# Altium footprint library Componentes Deived Projetos PCB.PcbLib: 87 footprints (part 5 of 6)
Each footprint in its own frame and in the unit in brackets; x right, y up, seen from the top. Pads: shape width x height; smd on the part's side, far side on the other; paste and mask are expansions set on the pad; w line width, h text height; cw(c..) or ccw(c..) is an arc to the next point about the centre after c.
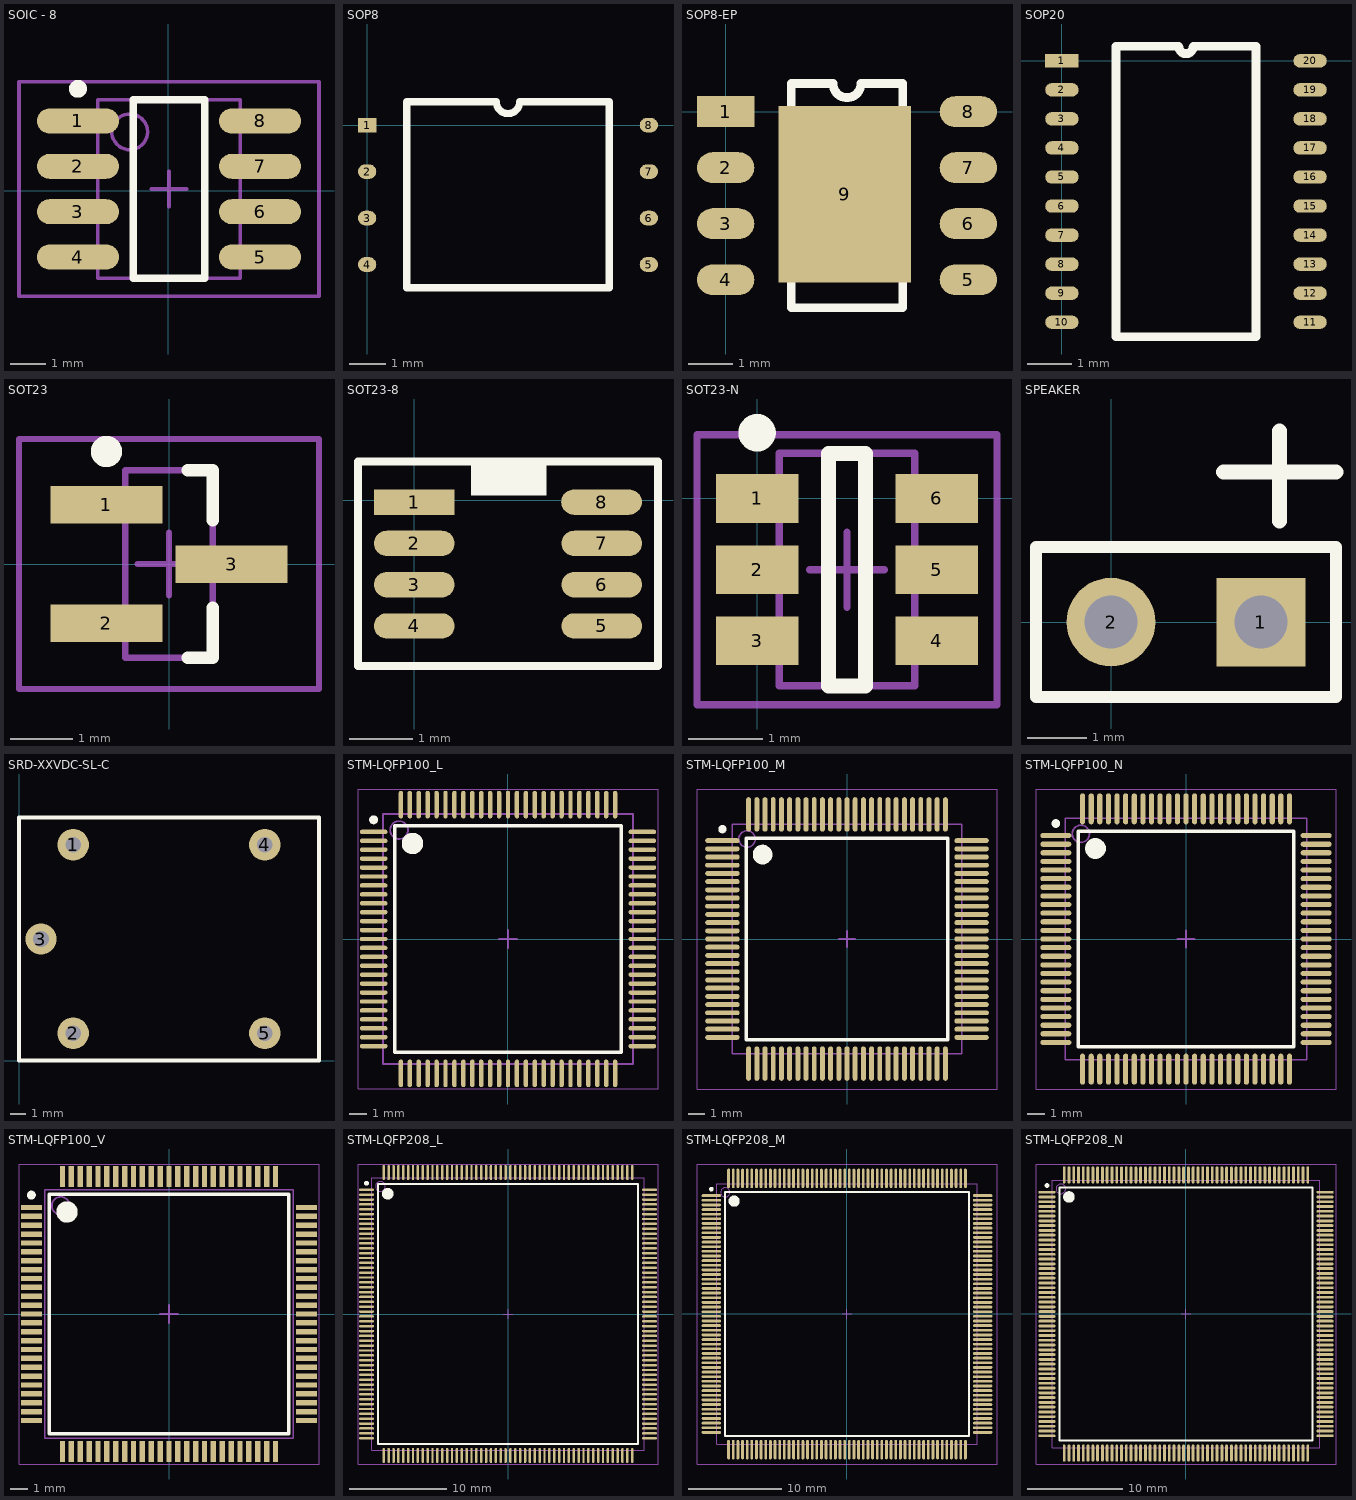
[diagram p4: the footprints below, top view; thin cyan lines are the x and y axes]

## SOIC - 8 [mm]
pads (8):
  oval 2.3x0.7 smd: 1(-2.525,1.955) 2(-2.525,0.685) 3(-2.525,-0.585) 4(-2.525,-1.855) 5(2.575,-1.855) 6(2.575,-0.585) 7(2.575,0.685) 8(2.575,1.955)
Top Overlay:
  circle w0.25: c-2.525,2.855 r0.125
  lines w0.2: -0.975,-2.45 1.025,-2.45 1.025,2.55 -0.975,2.55 -0.975,-2.45
Mechanical 13:
  circle w0.1: c-1.075,1.65 r0.5
  lines w0.1: -1.975,-2.45 2.025,-2.45 2.025,2.55 -1.975,2.55 -1.975,-2.45
Mechanical 15:
  lines w0.1: -0.475,0.05 0.525,0.05 ; 0.025,-0.45 0.025,0.55 ; -4.175,-2.95 4.225,-2.95 4.225,3.05 -4.175,3.05 -4.175,-2.95
3D body: height 2.72, standoff 0, extent -1.975,-2.45 2.025,2.55

## SOP8 [mm]
pads (8):
  rect 0.5x0.4 smd: 1(0,0)
  oval 0.5x0.4 smd: 2(0,-1.27) 3(0,-2.54) 4(0,-3.81) 5(7.7,-3.81) 6(7.7,-2.54) 7(7.7,-1.27) 8(7.7,0)
Top Overlay:
  lines w0.2: 1.085,-4.445 1.085,0.635 3.532,0.635 ccw(c3.85,0.635) 4.167,0.635 6.615,0.635 6.615,-4.445 1.085,-4.445

## SOP8-EP [mm]
pads (9):
  rect 1.3x0.7 smd: 1(0,0)
  oval 1.3x0.7 smd: 2(0,-1.27) 3(0,-2.54) 4(0,-3.81) 5(5.5,-3.81) 6(5.5,-2.54) 7(5.5,-1.27) 8(5.5,0)
  rect 3x4 smd: 9(2.7,-1.875)
Top Overlay:
  lines w0.2: 1.485,-4.445 4.015,-4.445 4.015,0.635 3.067,0.635 cw(c2.75,0.635) 2.432,0.635 1.485,0.635 1.485,-4.445

## SOP20 [mm]
pads (20):
  rect 0.75x0.3 smd: 1(0,0)
  oval 0.75x0.3 smd: 2(0,-0.65) 3(0,-1.3) 4(0,-1.95) 5(0,-2.6) 6(0,-3.25) 7(0,-3.9) 8(0,-4.55) 9(0,-5.2) 10(0,-5.85) 11(5.55,-5.85) 12(5.55,-5.2) 13(5.55,-4.55) 14(5.55,-3.9) 15(5.55,-3.25) 16(5.55,-2.6) 17(5.55,-1.95) 18(5.55,-1.3) 19(5.55,-0.65) 20(5.55,0)
Top Overlay:
  lines w0.2: 1.21,-6.175 1.21,0.325 2.612,0.325 ccw(c2.775,0.325) 2.937,0.325 4.34,0.325 4.34,-6.175 1.21,-6.175

## SOT23 [mm]
pads (3):
  rect 1.8x0.6 smd: 1(-1,0.95) 2(-1,-0.95) 3(1,0)
Top Overlay:
  circle w0.25: c-1,1.8 r0.125
  lines w0.2: 0.3,-1.5 0.7,-1.5 0.7,-0.7 ; 0.3,1.5 0.7,1.5 0.7,0.7
Mechanical 13:
  lines w0.1: -0.7,-1.5 0.7,-1.5 0.7,1.5 -0.7,1.5 -0.7,-1.5
Mechanical 15:
  lines w0.1: -0.5,0 0.5,0 ; 0,-0.5 0,0.5 ; -2.4,-2 2.4,-2 2.4,2 -2.4,2 -2.4,-2
3D body: height 1.1, standoff 0, extent -0.7,-1.5 0.7,1.5

## SOT23-8 [mm]
pads (8):
  rect 1.27x0.4 smd: 1(0,-0.025)
  oval 1.27x0.4 smd: 2(0,-0.675) 3(0,-1.325) 4(0,-1.975) 5(2.95,-1.975) 6(2.95,-1.325) 7(2.95,-0.675) 8(2.946,-0.025)
Top Overlay:
  rectangle: 0.889,0.075 2.083,0.575
  lines w0.127: -0.886,0.255 -0.886,0.28 ; -0.886,0.356 -0.886,0.61 ; -0.53,0.61 -0.48,0.61 ; -0.505,0.61 -0.886,0.61 ; -0.886,0.61 -0.886,-2.605 3.835,-2.605 3.835,0.61 -0.886,0.61
3D body: height 0.22, standoff 0, extent 2.464,-2.121 2.692,-1.79
3D body: height 0.62, standoff 0, extent 2.299,-2.121 2.527,-1.79
3D body: height 0.62, standoff 0.4, extent 2.134,-2.121 2.311,-1.79
3D body: height 0.62, standoff 0.4, extent 2.134,-1.486 2.311,-1.155
3D body: height 0.62, standoff 0, extent 2.299,-1.486 2.527,-1.155
3D body: height 0.22, standoff 0, extent 2.464,-1.486 2.692,-1.155
3D body: height 0.62, standoff 0.4, extent 2.134,-0.825 2.311,-0.495
3D body: height 0.62, standoff 0, extent 2.299,-0.825 2.527,-0.495
3D body: height 0.22, standoff 0, extent 2.464,-0.825 2.692,-0.495
3D body: height 0.62, standoff 0.4, extent 2.134,-0.165 2.311,0.165
3D body: height 0.62, standoff 0, extent 2.299,-0.165 2.527,0.165
3D body: height 0.22, standoff 0, extent 2.464,-0.165 2.692,0.165
3D body: height 0.22, standoff 0, extent 0.254,-0.177 0.483,0.153
3D body: height 0.62, standoff 0, extent 0.419,-0.177 0.648,0.153
3D body: height 0.62, standoff 0.4, extent 0.635,-0.177 0.813,0.153
3D body: height 0.22, standoff 0, extent 0.254,-0.838 0.483,-0.508
3D body: height 0.62, standoff 0, extent 0.419,-0.838 0.648,-0.508
3D body: height 0.62, standoff 0.4, extent 0.635,-0.838 0.813,-0.508
3D body: height 0.22, standoff 0, extent 0.254,-1.498 0.483,-1.168
3D body: height 0.62, standoff 0, extent 0.419,-1.498 0.648,-1.168
3D body: height 0.62, standoff 0.4, extent 0.635,-1.498 0.813,-1.168
3D body: height 1.3, standoff 0.1, extent 0.813,-2.463 2.134,0.458
3D body: height 0.62, standoff 0.4, extent 0.635,-2.133 0.813,-1.803
3D body: height 0.62, standoff 0, extent 0.419,-2.133 0.648,-1.803
3D body: height 0.22, standoff 0, extent 0.254,-2.133 0.483,-1.803
3D body: height 1.33, standoff 1.3, extent 0.991,0.026 1.244,0.28

## SOT23-N [mm]
pads (6):
  rect 1.1x0.65 smd: 1(0,0) 2(0,-0.95) 3(0,-1.9) 4(2.4,-1.9) 5(2.4,-0.95) 6(2.4,0)
Top Overlay:
  circle w0.25: c0,0.875 r0.125
  lines w0.2: 0.95,-2.5 1.45,-2.5 1.45,0.6 0.95,0.6 0.95,-2.5
Mechanical 13:
  lines w0.1: 0.3,-2.5 0.3,0.6 2.1,0.6 2.1,-2.5 0.3,-2.5
Mechanical 15:
  lines w0.1: 0.7,-0.95 1.7,-0.95 ; 1.2,-1.45 1.2,-0.45 ; -0.8,-2.75 -0.8,0.85 3.2,0.85 3.2,-2.75 -0.8,-2.75
3D body: height 1.45, standoff 0, extent 0.3,-2.5 2.1,0.6

## SPEAKER [mm]
pads (2):
  rect 1.5x1.5 hole 0.9: 1(2.54,0)
  round 1.5 hole 0.9: 2(0,0)
Top Overlay:
  lines w0.2: -1.27,-1.27 -1.27,1.27 3.81,1.27 3.81,-1.27 -1.27,-1.27
  lines w0.254: 1.905,2.54 3.81,2.54 ; 2.857,1.714 2.857,2.54 2.857,3.238

## SRD-XXVDC-SL-C [mm]
pads (5):
  round 2 hole 1: 1(3.45,13.75) 2(3.45,1.75) 3(1.4,7.75) 4(15.65,13.75) 5(15.65,1.75)
Top Overlay:
  lines w0.254: 0,0 0,15.5 19.1,15.5 19.1,0 0,0

## STM-LQFP100_L [mm] "Thin QFP, 100-Leads, Body 14x14mm, Pitch 0.5mm, IPC High Density"
height 1.6
pads (100):
  oval 1.55x0.25 smd: 1(-7.525,6) 2(-7.525,5.5) 3(-7.525,5) 4(-7.525,4.5) 5(-7.525,4) 6(-7.525,3.5) 7(-7.525,3) 8(-7.525,2.5) 9(-7.525,2) 10(-7.525,1.5) 11(-7.525,1) 12(-7.525,0.5) 13(-7.525,0) 14(-7.525,-0.5) 15(-7.525,-1) 16(-7.525,-1.5) 17(-7.525,-2) 18(-7.525,-2.5) 19(-7.525,-3) 20(-7.525,-3.5) 21(-7.525,-4) 22(-7.525,-4.5) 23(-7.525,-5) 24(-7.525,-5.5) 25(-7.525,-6) 51(7.525,-6) 52(7.525,-5.5) 53(7.525,-5) 54(7.525,-4.5) 55(7.525,-4) 56(7.525,-3.5) 57(7.525,-3) 58(7.525,-2.5) 59(7.525,-2) 60(7.525,-1.5) 61(7.525,-1) 62(7.525,-0.5) 63(7.525,0) 64(7.525,0.5) 65(7.525,1) 66(7.525,1.5) 67(7.525,2) 68(7.525,2.5) 69(7.525,3) 70(7.525,3.5) 71(7.525,4) 72(7.525,4.5) 73(7.525,5) 74(7.525,5.5) 75(7.525,6)
  oval 0.25x1.55 smd: 26(-6,-7.525) 27(-5.5,-7.525) 28(-5,-7.525) 29(-4.5,-7.525) 30(-4,-7.525) 31(-3.5,-7.525) 32(-3,-7.525) 33(-2.5,-7.525) 34(-2,-7.525) 35(-1.5,-7.525) 36(-1,-7.525) 37(-0.5,-7.525) 38(0,-7.525) 39(0.5,-7.525) 40(1,-7.525) 41(1.5,-7.525) 42(2,-7.525) 43(2.5,-7.525) 44(3,-7.525) 45(3.5,-7.525) 46(4,-7.525) 47(4.5,-7.525) 48(5,-7.525) 49(5.5,-7.525) 50(6,-7.525) 76(6,7.525) 77(5.5,7.525) 78(5,7.525) 79(4.5,7.525) 80(4,7.525) 81(3.5,7.525) 82(3,7.525) 83(2.5,7.525) 84(2,7.525) 85(1.5,7.525) 86(1,7.525) 87(0.5,7.525) 88(0,7.525) 89(-0.5,7.525) 90(-1,7.525) 91(-1.5,7.525) 92(-2,7.525) 93(-2.5,7.525) 94(-3,7.525) 95(-3.5,7.525) 96(-4,7.525) 97(-4.5,7.525) 98(-5,7.525) 99(-5.5,7.525) 100(-6,7.525)
Top Overlay:
  circle w0.6: c-5.35,5.35 r0.3
  circle w0.25: c-7.525,6.675 r0.125
  lines w0.2: -6.35,-6.35 6.35,-6.35 6.35,6.35 -6.35,6.35 -6.35,-6.35
Mechanical 13:
  circle w0.1: c-6.1,6.1 r0.5
  lines w0.1: -7,-7 7,-7 7,7 -7,7 -7,-7
Mechanical 15:
  lines w0.05: -8.4,-8.4 8.4,-8.4 8.4,8.4 -8.4,8.4 -8.4,-8.4
  lines w0.1: -0.5,0 0.5,0 ; 0,-0.5 0,0.5
3D body: height 1.6, standoff 0.05, extent -7,-7 7,7

## STM-LQFP100_M [mm] "Thin QFP, 100-Leads, Body 14x14mm, Pitch 0.5mm, IPC Low Density"
height 1.6
pads (100):
  oval 2.1x0.3 smd: 1(-7.6,6) 2(-7.6,5.5) 3(-7.6,5) 4(-7.6,4.5) 5(-7.6,4) 6(-7.6,3.5) 7(-7.6,3) 8(-7.6,2.5) 9(-7.6,2) 10(-7.6,1.5) 11(-7.6,1) 12(-7.6,0.5) 13(-7.6,0) 14(-7.6,-0.5) 15(-7.6,-1) 16(-7.6,-1.5) 17(-7.6,-2) 18(-7.6,-2.5) 19(-7.6,-3) 20(-7.6,-3.5) 21(-7.6,-4) 22(-7.6,-4.5) 23(-7.6,-5) 24(-7.6,-5.5) 25(-7.6,-6) 51(7.6,-6) 52(7.6,-5.5) 53(7.6,-5) 54(7.6,-4.5) 55(7.6,-4) 56(7.6,-3.5) 57(7.6,-3) 58(7.6,-2.5) 59(7.6,-2) 60(7.6,-1.5) 61(7.6,-1) 62(7.6,-0.5) 63(7.6,0) 64(7.6,0.5) 65(7.6,1) 66(7.6,1.5) 67(7.6,2) 68(7.6,2.5) 69(7.6,3) 70(7.6,3.5) 71(7.6,4) 72(7.6,4.5) 73(7.6,5) 74(7.6,5.5) 75(7.6,6)
  oval 0.3x2.1 smd: 26(-6,-7.6) 27(-5.5,-7.6) 28(-5,-7.6) 29(-4.5,-7.6) 30(-4,-7.6) 31(-3.5,-7.6) 32(-3,-7.6) 33(-2.5,-7.6) 34(-2,-7.6) 35(-1.5,-7.6) 36(-1,-7.6) 37(-0.5,-7.6) 38(0,-7.6) 39(0.5,-7.6) 40(1,-7.6) 41(1.5,-7.6) 42(2,-7.6) 43(2.5,-7.6) 44(3,-7.6) 45(3.5,-7.6) 46(4,-7.6) 47(4.5,-7.6) 48(5,-7.6) 49(5.5,-7.6) 50(6,-7.6) 76(6,7.6) 77(5.5,7.6) 78(5,7.6) 79(4.5,7.6) 80(4,7.6) 81(3.5,7.6) 82(3,7.6) 83(2.5,7.6) 84(2,7.6) 85(1.5,7.6) 86(1,7.6) 87(0.5,7.6) 88(0,7.6) 89(-0.5,7.6) 90(-1,7.6) 91(-1.5,7.6) 92(-2,7.6) 93(-2.5,7.6) 94(-3,7.6) 95(-3.5,7.6) 96(-4,7.6) 97(-4.5,7.6) 98(-5,7.6) 99(-5.5,7.6) 100(-6,7.6)
Top Overlay:
  circle w0.6: c-5.15,5.15 r0.3
  circle w0.25: c-7.6,6.7 r0.125
  lines w0.2: -6.15,-6.15 6.15,-6.15 6.15,6.15 -6.15,6.15 -6.15,-6.15
Mechanical 13:
  circle w0.1: c-6.1,6.1 r0.5
  lines w0.1: -7,-7 7,-7 7,7 -7,7 -7,-7
Mechanical 15:
  lines w0.05: -9.15,-9.15 9.15,-9.15 9.15,9.15 -9.15,9.15 -9.15,-9.15
  lines w0.1: -0.5,0 0.5,0 ; 0,-0.5 0,0.5
3D body: height 1.6, standoff 0.05, extent -7,-7 7,7

## STM-LQFP100_N [mm] "Thin QFP, 100-Leads, Body 14x14mm, Pitch 0.5mm, IPC Medium Density"
height 1.6
pads (100):
  oval 1.8x0.3 smd: 1(-7.55,6) 2(-7.55,5.5) 3(-7.55,5) 4(-7.55,4.5) 5(-7.55,4) 6(-7.55,3.5) 7(-7.55,3) 8(-7.55,2.5) 9(-7.55,2) 10(-7.55,1.5) 11(-7.55,1) 12(-7.55,0.5) 13(-7.55,0) 14(-7.55,-0.5) 15(-7.55,-1) 16(-7.55,-1.5) 17(-7.55,-2) 18(-7.55,-2.5) 19(-7.55,-3) 20(-7.55,-3.5) 21(-7.55,-4) 22(-7.55,-4.5) 23(-7.55,-5) 24(-7.55,-5.5) 25(-7.55,-6) 51(7.55,-6) 52(7.55,-5.5) 53(7.55,-5) 54(7.55,-4.5) 55(7.55,-4) 56(7.55,-3.5) 57(7.55,-3) 58(7.55,-2.5) 59(7.55,-2) 60(7.55,-1.5) 61(7.55,-1) 62(7.55,-0.5) 63(7.55,0) 64(7.55,0.5) 65(7.55,1) 66(7.55,1.5) 67(7.55,2) 68(7.55,2.5) 69(7.55,3) 70(7.55,3.5) 71(7.55,4) 72(7.55,4.5) 73(7.55,5) 74(7.55,5.5) 75(7.55,6)
  oval 0.3x1.8 smd: 26(-6,-7.55) 27(-5.5,-7.55) 28(-5,-7.55) 29(-4.5,-7.55) 30(-4,-7.55) 31(-3.5,-7.55) 32(-3,-7.55) 33(-2.5,-7.55) 34(-2,-7.55) 35(-1.5,-7.55) 36(-1,-7.55) 37(-0.5,-7.55) 38(0,-7.55) 39(0.5,-7.55) 40(1,-7.55) 41(1.5,-7.55) 42(2,-7.55) 43(2.5,-7.55) 44(3,-7.55) 45(3.5,-7.55) 46(4,-7.55) 47(4.5,-7.55) 48(5,-7.55) 49(5.5,-7.55) 50(6,-7.55) 76(6,7.55) 77(5.5,7.55) 78(5,7.55) 79(4.5,7.55) 80(4,7.55) 81(3.5,7.55) 82(3,7.55) 83(2.5,7.55) 84(2,7.55) 85(1.5,7.55) 86(1,7.55) 87(0.5,7.55) 88(0,7.55) 89(-0.5,7.55) 90(-1,7.55) 91(-1.5,7.55) 92(-2,7.55) 93(-2.5,7.55) 94(-3,7.55) 95(-3.5,7.55) 96(-4,7.55) 97(-4.5,7.55) 98(-5,7.55) 99(-5.5,7.55) 100(-6,7.55)
Top Overlay:
  circle w0.6: c-5.25,5.25 r0.3
  circle w0.25: c-7.55,6.7 r0.125
  lines w0.2: -6.25,-6.25 6.25,-6.25 6.25,6.25 -6.25,6.25 -6.25,-6.25
Mechanical 13:
  circle w0.1: c-6.1,6.1 r0.5
  lines w0.1: -7,-7 7,-7 7,7 -7,7 -7,-7
Mechanical 15:
  lines w0.05: -8.7,-8.7 8.7,-8.7 8.7,8.7 -8.7,8.7 -8.7,-8.7
  lines w0.1: -0.5,0 0.5,0 ; 0,-0.5 0,0.5
3D body: height 1.6, standoff 0.05, extent -7,-7 7,7

## STM-LQFP100_V [mm] "Thin QFP, 100-Leads, Body 14x14mm, Pitch 0.5mm, ST Recommended"
height 1.6
pads (100):
  rect 1.2x0.3 smd: 1(-7.75,6) 2(-7.75,5.5) 3(-7.75,5) 4(-7.75,4.5) 5(-7.75,4) 6(-7.75,3.5) 7(-7.75,3) 8(-7.75,2.5) 9(-7.75,2) 10(-7.75,1.5) 11(-7.75,1) 12(-7.75,0.5) 13(-7.75,0) 14(-7.75,-0.5) 15(-7.75,-1) 16(-7.75,-1.5) 17(-7.75,-2) 18(-7.75,-2.5) 19(-7.75,-3) 20(-7.75,-3.5) 21(-7.75,-4) 22(-7.75,-4.5) 23(-7.75,-5) 24(-7.75,-5.5) 25(-7.75,-6) 51(7.75,-6) 52(7.75,-5.5) 53(7.75,-5) 54(7.75,-4.5) 55(7.75,-4) 56(7.75,-3.5) 57(7.75,-3) 58(7.75,-2.5) 59(7.75,-2) 60(7.75,-1.5) 61(7.75,-1) 62(7.75,-0.5) 63(7.75,0) 64(7.75,0.5) 65(7.75,1) 66(7.75,1.5) 67(7.75,2) 68(7.75,2.5) 69(7.75,3) 70(7.75,3.5) 71(7.75,4) 72(7.75,4.5) 73(7.75,5) 74(7.75,5.5) 75(7.75,6)
  rect 0.3x1.2 smd: 26(-6,-7.75) 27(-5.5,-7.75) 28(-5,-7.75) 29(-4.5,-7.75) 30(-4,-7.75) 31(-3.5,-7.75) 32(-3,-7.75) 33(-2.5,-7.75) 34(-2,-7.75) 35(-1.5,-7.75) 36(-1,-7.75) 37(-0.5,-7.75) 38(0,-7.75) 39(0.5,-7.75) 40(1,-7.75) 41(1.5,-7.75) 42(2,-7.75) 43(2.5,-7.75) 44(3,-7.75) 45(3.5,-7.75) 46(4,-7.75) 47(4.5,-7.75) 48(5,-7.75) 49(5.5,-7.75) 50(6,-7.75) 76(6,7.75) 77(5.5,7.75) 78(5,7.75) 79(4.5,7.75) 80(4,7.75) 81(3.5,7.75) 82(3,7.75) 83(2.5,7.75) 84(2,7.75) 85(1.5,7.75) 86(1,7.75) 87(0.5,7.75) 88(0,7.75) 89(-0.5,7.75) 90(-1,7.75) 91(-1.5,7.75) 92(-2,7.75) 93(-2.5,7.75) 94(-3,7.75) 95(-3.5,7.75) 96(-4,7.75) 97(-4.5,7.75) 98(-5,7.75) 99(-5.5,7.75) 100(-6,7.75)
Top Overlay:
  circle w0.25: c-7.75,6.7 r0.125
  circle w0.6: c-5.75,5.75 r0.3
  lines w0.2: -6.75,-6.75 -6.75,6.75 6.75,6.75 6.75,-6.75 -6.75,-6.75
Mechanical 13:
  circle w0.1: c-6.1,6.1 r0.5
  lines w0.1: -7,-7 -7,7 7,7 7,-7 -7,-7
Mechanical 15:
  lines w0.05: -8.45,-8.45 -8.45,8.45 8.45,8.45 8.45,-8.45 -8.45,-8.45
  lines w0.1: -0.5,0 0.5,0 ; 0,-0.5 0,0.5
3D body: height 1.6, standoff 0.05, extent -7,-7 7,7

## STM-LQFP208_L [mm] "QFP, 208-Leads, Body 28x28mm, Pitch 0.5mm, IPC High Density"
height 1.6
pads (208):
  oval 1.55x0.25 smd: 1(-14.525,12.75) 2(-14.525,12.25) 3(-14.525,11.75) 4(-14.525,11.25) 5(-14.525,10.75) 6(-14.525,10.25) 7(-14.525,9.75) 8(-14.525,9.25) 9(-14.525,8.75) 10(-14.525,8.25) 11(-14.525,7.75) 12(-14.525,7.25) 13(-14.525,6.75) 14(-14.525,6.25) 15(-14.525,5.75) 16(-14.525,5.25) 17(-14.525,4.75) 18(-14.525,4.25) 19(-14.525,3.75) 20(-14.525,3.25) 21(-14.525,2.75) 22(-14.525,2.25) 23(-14.525,1.75) 24(-14.525,1.25) 25(-14.525,0.75) 26(-14.525,0.25) 27(-14.525,-0.25) 28(-14.525,-0.75) 29(-14.525,-1.25) 30(-14.525,-1.75) 31(-14.525,-2.25) 32(-14.525,-2.75) 33(-14.525,-3.25) 34(-14.525,-3.75) 35(-14.525,-4.25) 36(-14.525,-4.75) 37(-14.525,-5.25) 38(-14.525,-5.75) 39(-14.525,-6.25) 40(-14.525,-6.75) 41(-14.525,-7.25) 42(-14.525,-7.75) 43(-14.525,-8.25) 44(-14.525,-8.75) 45(-14.525,-9.25) 46(-14.525,-9.75) 47(-14.525,-10.25) 48(-14.525,-10.75) 49(-14.525,-11.25) 50(-14.525,-11.75) 51(-14.525,-12.25) 52(-14.525,-12.75) 105(14.525,-12.75) 106(14.525,-12.25) 107(14.525,-11.75) 108(14.525,-11.25) 109(14.525,-10.75) 110(14.525,-10.25) 111(14.525,-9.75) 112(14.525,-9.25) 113(14.525,-8.75) 114(14.525,-8.25) 115(14.525,-7.75) 116(14.525,-7.25) 117(14.525,-6.75) 118(14.525,-6.25) 119(14.525,-5.75) 120(14.525,-5.25) 121(14.525,-4.75) 122(14.525,-4.25) 123(14.525,-3.75) 124(14.525,-3.25) 125(14.525,-2.75) 126(14.525,-2.25) 127(14.525,-1.75) 128(14.525,-1.25) 129(14.525,-0.75) 130(14.525,-0.25) 131(14.525,0.25) 132(14.525,0.75) 133(14.525,1.25) 134(14.525,1.75) 135(14.525,2.25) 136(14.525,2.75) 137(14.525,3.25) 138(14.525,3.75) 139(14.525,4.25) 140(14.525,4.75) 141(14.525,5.25) 142(14.525,5.75) 143(14.525,6.25) 144(14.525,6.75) 145(14.525,7.25) 146(14.525,7.75) 147(14.525,8.25) 148(14.525,8.75) 149(14.525,9.25) 150(14.525,9.75) 151(14.525,10.25) 152(14.525,10.75) 153(14.525,11.25) 154(14.525,11.75) 155(14.525,12.25) 156(14.525,12.75)
  oval 0.25x1.55 smd: 53(-12.75,-14.525) 54(-12.25,-14.525) 55(-11.75,-14.525) 56(-11.25,-14.525) 57(-10.75,-14.525) 58(-10.25,-14.525) 59(-9.75,-14.525) 60(-9.25,-14.525) 61(-8.75,-14.525) 62(-8.25,-14.525) 63(-7.75,-14.525) 64(-7.25,-14.525) 65(-6.75,-14.525) 66(-6.25,-14.525) 67(-5.75,-14.525) 68(-5.25,-14.525) 69(-4.75,-14.525) 70(-4.25,-14.525) 71(-3.75,-14.525) 72(-3.25,-14.525) 73(-2.75,-14.525) 74(-2.25,-14.525) 75(-1.75,-14.525) 76(-1.25,-14.525) 77(-0.75,-14.525) 78(-0.25,-14.525) 79(0.25,-14.525) 80(0.75,-14.525) 81(1.25,-14.525) 82(1.75,-14.525) 83(2.25,-14.525) 84(2.75,-14.525) 85(3.25,-14.525) 86(3.75,-14.525) 87(4.25,-14.525) 88(4.75,-14.525) 89(5.25,-14.525) 90(5.75,-14.525) 91(6.25,-14.525) 92(6.75,-14.525) 93(7.25,-14.525) 94(7.75,-14.525) 95(8.25,-14.525) 96(8.75,-14.525) 97(9.25,-14.525) 98(9.75,-14.525) 99(10.25,-14.525) 100(10.75,-14.525) 101(11.25,-14.525) 102(11.75,-14.525) 103(12.25,-14.525) 104(12.75,-14.525) 157(12.75,14.525) 158(12.25,14.525) 159(11.75,14.525) 160(11.25,14.525) 161(10.75,14.525) 162(10.25,14.525) 163(9.75,14.525) 164(9.25,14.525) 165(8.75,14.525) 166(8.25,14.525) 167(7.75,14.525) 168(7.25,14.525) 169(6.75,14.525) 170(6.25,14.525) 171(5.75,14.525) 172(5.25,14.525) 173(4.75,14.525) 174(4.25,14.525) 175(3.75,14.525) 176(3.25,14.525) 177(2.75,14.525) 178(2.25,14.525) 179(1.75,14.525) 180(1.25,14.525) 181(0.75,14.525) 182(0.25,14.525) 183(-0.25,14.525) 184(-0.75,14.525) 185(-1.25,14.525) 186(-1.75,14.525) 187(-2.25,14.525) 188(-2.75,14.525) 189(-3.25,14.525) 190(-3.75,14.525) 191(-4.25,14.525) 192(-4.75,14.525) 193(-5.25,14.525) 194(-5.75,14.525) 195(-6.25,14.525) 196(-6.75,14.525) 197(-7.25,14.525) 198(-7.75,14.525) 199(-8.25,14.525) 200(-8.75,14.525) 201(-9.25,14.525) 202(-9.75,14.525) 203(-10.25,14.525) 204(-10.75,14.525) 205(-11.25,14.525) 206(-11.75,14.525) 207(-12.25,14.525) 208(-12.75,14.525)
Top Overlay:
  circle w0.6: c-12.35,12.35 r0.3
  circle w0.25: c-14.525,13.425 r0.125
  lines w0.2: -13.35,-13.35 13.35,-13.35 13.35,13.35 -13.35,13.35 -13.35,-13.35
Mechanical 13:
  circle w0.1: c-13.1,13.1 r0.5
  lines w0.1: -14,-14 14,-14 14,14 -14,14 -14,-14
Mechanical 15:
  lines w0.05: -15.4,-15.4 15.4,-15.4 15.4,15.4 -15.4,15.4 -15.4,-15.4
  lines w0.1: -0.5,0 0.5,0 ; 0,-0.5 0,0.5
3D body: height 1.6, standoff 0.05, extent -14,-14 14,14

## STM-LQFP208_M [mm] "QFP, 208-Leads, Body 28x28mm, Pitch 0.5mm, IPC Low Density"
height 1.6
pads (208):
  oval 2.1x0.3 smd: 1(-14.6,12.75) 2(-14.6,12.25) 3(-14.6,11.75) 4(-14.6,11.25) 5(-14.6,10.75) 6(-14.6,10.25) 7(-14.6,9.75) 8(-14.6,9.25) 9(-14.6,8.75) 10(-14.6,8.25) 11(-14.6,7.75) 12(-14.6,7.25) 13(-14.6,6.75) 14(-14.6,6.25) 15(-14.6,5.75) 16(-14.6,5.25) 17(-14.6,4.75) 18(-14.6,4.25) 19(-14.6,3.75) 20(-14.6,3.25) 21(-14.6,2.75) 22(-14.6,2.25) 23(-14.6,1.75) 24(-14.6,1.25) 25(-14.6,0.75) 26(-14.6,0.25) 27(-14.6,-0.25) 28(-14.6,-0.75) 29(-14.6,-1.25) 30(-14.6,-1.75) 31(-14.6,-2.25) 32(-14.6,-2.75) 33(-14.6,-3.25) 34(-14.6,-3.75) 35(-14.6,-4.25) 36(-14.6,-4.75) 37(-14.6,-5.25) 38(-14.6,-5.75) 39(-14.6,-6.25) 40(-14.6,-6.75) 41(-14.6,-7.25) 42(-14.6,-7.75) 43(-14.6,-8.25) 44(-14.6,-8.75) 45(-14.6,-9.25) 46(-14.6,-9.75) 47(-14.6,-10.25) 48(-14.6,-10.75) 49(-14.6,-11.25) 50(-14.6,-11.75) 51(-14.6,-12.25) 52(-14.6,-12.75) 105(14.6,-12.75) 106(14.6,-12.25) 107(14.6,-11.75) 108(14.6,-11.25) 109(14.6,-10.75) 110(14.6,-10.25) 111(14.6,-9.75) 112(14.6,-9.25) 113(14.6,-8.75) 114(14.6,-8.25) 115(14.6,-7.75) 116(14.6,-7.25) 117(14.6,-6.75) 118(14.6,-6.25) 119(14.6,-5.75) 120(14.6,-5.25) 121(14.6,-4.75) 122(14.6,-4.25) 123(14.6,-3.75) 124(14.6,-3.25) 125(14.6,-2.75) 126(14.6,-2.25) 127(14.6,-1.75) 128(14.6,-1.25) 129(14.6,-0.75) 130(14.6,-0.25) 131(14.6,0.25) 132(14.6,0.75) 133(14.6,1.25) 134(14.6,1.75) 135(14.6,2.25) 136(14.6,2.75) 137(14.6,3.25) 138(14.6,3.75) 139(14.6,4.25) 140(14.6,4.75) 141(14.6,5.25) 142(14.6,5.75) 143(14.6,6.25) 144(14.6,6.75) 145(14.6,7.25) 146(14.6,7.75) 147(14.6,8.25) 148(14.6,8.75) 149(14.6,9.25) 150(14.6,9.75) 151(14.6,10.25) 152(14.6,10.75) 153(14.6,11.25) 154(14.6,11.75) 155(14.6,12.25) 156(14.6,12.75)
  oval 0.3x2.1 smd: 53(-12.75,-14.6) 54(-12.25,-14.6) 55(-11.75,-14.6) 56(-11.25,-14.6) 57(-10.75,-14.6) 58(-10.25,-14.6) 59(-9.75,-14.6) 60(-9.25,-14.6) 61(-8.75,-14.6) 62(-8.25,-14.6) 63(-7.75,-14.6) 64(-7.25,-14.6) 65(-6.75,-14.6) 66(-6.25,-14.6) 67(-5.75,-14.6) 68(-5.25,-14.6) 69(-4.75,-14.6) 70(-4.25,-14.6) 71(-3.75,-14.6) 72(-3.25,-14.6) 73(-2.75,-14.6) 74(-2.25,-14.6) 75(-1.75,-14.6) 76(-1.25,-14.6) 77(-0.75,-14.6) 78(-0.25,-14.6) 79(0.25,-14.6) 80(0.75,-14.6) 81(1.25,-14.6) 82(1.75,-14.6) 83(2.25,-14.6) 84(2.75,-14.6) 85(3.25,-14.6) 86(3.75,-14.6) 87(4.25,-14.6) 88(4.75,-14.6) 89(5.25,-14.6) 90(5.75,-14.6) 91(6.25,-14.6) 92(6.75,-14.6) 93(7.25,-14.6) 94(7.75,-14.6) 95(8.25,-14.6) 96(8.75,-14.6) 97(9.25,-14.6) 98(9.75,-14.6) 99(10.25,-14.6) 100(10.75,-14.6) 101(11.25,-14.6) 102(11.75,-14.6) 103(12.25,-14.6) 104(12.75,-14.6) 157(12.75,14.6) 158(12.25,14.6) 159(11.75,14.6) 160(11.25,14.6) 161(10.75,14.6) 162(10.25,14.6) 163(9.75,14.6) 164(9.25,14.6) 165(8.75,14.6) 166(8.25,14.6) 167(7.75,14.6) 168(7.25,14.6) 169(6.75,14.6) 170(6.25,14.6) 171(5.75,14.6) 172(5.25,14.6) 173(4.75,14.6) 174(4.25,14.6) 175(3.75,14.6) 176(3.25,14.6) 177(2.75,14.6) 178(2.25,14.6) 179(1.75,14.6) 180(1.25,14.6) 181(0.75,14.6) 182(0.25,14.6) 183(-0.25,14.6) 184(-0.75,14.6) 185(-1.25,14.6) 186(-1.75,14.6) 187(-2.25,14.6) 188(-2.75,14.6) 189(-3.25,14.6) 190(-3.75,14.6) 191(-4.25,14.6) 192(-4.75,14.6) 193(-5.25,14.6) 194(-5.75,14.6) 195(-6.25,14.6) 196(-6.75,14.6) 197(-7.25,14.6) 198(-7.75,14.6) 199(-8.25,14.6) 200(-8.75,14.6) 201(-9.25,14.6) 202(-9.75,14.6) 203(-10.25,14.6) 204(-10.75,14.6) 205(-11.25,14.6) 206(-11.75,14.6) 207(-12.25,14.6) 208(-12.75,14.6)
Top Overlay:
  circle w0.25: c-14.6,13.45 r0.125
  circle w0.6: c-12.15,12.15 r0.3
  lines w0.2: -13.15,-13.15 -13.15,13.15 13.15,13.15 13.15,-13.15 -13.15,-13.15
Mechanical 13:
  circle w0.1: c-13.1,13.1 r0.5
  lines w0.1: -14,-14 -14,14 14,14 14,-14 -14,-14
Mechanical 15:
  lines w0.05: -16.15,-16.15 -16.15,16.15 16.15,16.15 16.15,-16.15 -16.15,-16.15
  lines w0.1: -0.5,0 0.5,0 ; 0,-0.5 0,0.5
3D body: height 1.6, standoff 0.05, extent -14,-14 14,14

## STM-LQFP208_N [mm] "QFP, 208-Leads, Body 28x28mm, Pitch 0.5mm, IPC Medium Density"
height 1.6
pads (208):
  oval 1.8x0.3 smd: 1(-14.55,12.75) 2(-14.55,12.25) 3(-14.55,11.75) 4(-14.55,11.25) 5(-14.55,10.75) 6(-14.55,10.25) 7(-14.55,9.75) 8(-14.55,9.25) 9(-14.55,8.75) 10(-14.55,8.25) 11(-14.55,7.75) 12(-14.55,7.25) 13(-14.55,6.75) 14(-14.55,6.25) 15(-14.55,5.75) 16(-14.55,5.25) 17(-14.55,4.75) 18(-14.55,4.25) 19(-14.55,3.75) 20(-14.55,3.25) 21(-14.55,2.75) 22(-14.55,2.25) 23(-14.55,1.75) 24(-14.55,1.25) 25(-14.55,0.75) 26(-14.55,0.25) 27(-14.55,-0.25) 28(-14.55,-0.75) 29(-14.55,-1.25) 30(-14.55,-1.75) 31(-14.55,-2.25) 32(-14.55,-2.75) 33(-14.55,-3.25) 34(-14.55,-3.75) 35(-14.55,-4.25) 36(-14.55,-4.75) 37(-14.55,-5.25) 38(-14.55,-5.75) 39(-14.55,-6.25) 40(-14.55,-6.75) 41(-14.55,-7.25) 42(-14.55,-7.75) 43(-14.55,-8.25) 44(-14.55,-8.75) 45(-14.55,-9.25) 46(-14.55,-9.75) 47(-14.55,-10.25) 48(-14.55,-10.75) 49(-14.55,-11.25) 50(-14.55,-11.75) 51(-14.55,-12.25) 52(-14.55,-12.75) 105(14.55,-12.75) 106(14.55,-12.25) 107(14.55,-11.75) 108(14.55,-11.25) 109(14.55,-10.75) 110(14.55,-10.25) 111(14.55,-9.75) 112(14.55,-9.25) 113(14.55,-8.75) 114(14.55,-8.25) 115(14.55,-7.75) 116(14.55,-7.25) 117(14.55,-6.75) 118(14.55,-6.25) 119(14.55,-5.75) 120(14.55,-5.25) 121(14.55,-4.75) 122(14.55,-4.25) 123(14.55,-3.75) 124(14.55,-3.25) 125(14.55,-2.75) 126(14.55,-2.25) 127(14.55,-1.75) 128(14.55,-1.25) 129(14.55,-0.75) 130(14.55,-0.25) 131(14.55,0.25) 132(14.55,0.75) 133(14.55,1.25) 134(14.55,1.75) 135(14.55,2.25) 136(14.55,2.75) 137(14.55,3.25) 138(14.55,3.75) 139(14.55,4.25) 140(14.55,4.75) 141(14.55,5.25) 142(14.55,5.75) 143(14.55,6.25) 144(14.55,6.75) 145(14.55,7.25) 146(14.55,7.75) 147(14.55,8.25) 148(14.55,8.75) 149(14.55,9.25) 150(14.55,9.75) 151(14.55,10.25) 152(14.55,10.75) 153(14.55,11.25) 154(14.55,11.75) 155(14.55,12.25) 156(14.55,12.75)
  oval 0.3x1.8 smd: 53(-12.75,-14.55) 54(-12.25,-14.55) 55(-11.75,-14.55) 56(-11.25,-14.55) 57(-10.75,-14.55) 58(-10.25,-14.55) 59(-9.75,-14.55) 60(-9.25,-14.55) 61(-8.75,-14.55) 62(-8.25,-14.55) 63(-7.75,-14.55) 64(-7.25,-14.55) 65(-6.75,-14.55) 66(-6.25,-14.55) 67(-5.75,-14.55) 68(-5.25,-14.55) 69(-4.75,-14.55) 70(-4.25,-14.55) 71(-3.75,-14.55) 72(-3.25,-14.55) 73(-2.75,-14.55) 74(-2.25,-14.55) 75(-1.75,-14.55) 76(-1.25,-14.55) 77(-0.75,-14.55) 78(-0.25,-14.55) 79(0.25,-14.55) 80(0.75,-14.55) 81(1.25,-14.55) 82(1.75,-14.55) 83(2.25,-14.55) 84(2.75,-14.55) 85(3.25,-14.55) 86(3.75,-14.55) 87(4.25,-14.55) 88(4.75,-14.55) 89(5.25,-14.55) 90(5.75,-14.55) 91(6.25,-14.55) 92(6.75,-14.55) 93(7.25,-14.55) 94(7.75,-14.55) 95(8.25,-14.55) 96(8.75,-14.55) 97(9.25,-14.55) 98(9.75,-14.55) 99(10.25,-14.55) 100(10.75,-14.55) 101(11.25,-14.55) 102(11.75,-14.55) 103(12.25,-14.55) 104(12.75,-14.55) 157(12.75,14.55) 158(12.25,14.55) 159(11.75,14.55) 160(11.25,14.55) 161(10.75,14.55) 162(10.25,14.55) 163(9.75,14.55) 164(9.25,14.55) 165(8.75,14.55) 166(8.25,14.55) 167(7.75,14.55) 168(7.25,14.55) 169(6.75,14.55) 170(6.25,14.55) 171(5.75,14.55) 172(5.25,14.55) 173(4.75,14.55) 174(4.25,14.55) 175(3.75,14.55) 176(3.25,14.55) 177(2.75,14.55) 178(2.25,14.55) 179(1.75,14.55) 180(1.25,14.55) 181(0.75,14.55) 182(0.25,14.55) 183(-0.25,14.55) 184(-0.75,14.55) 185(-1.25,14.55) 186(-1.75,14.55) 187(-2.25,14.55) 188(-2.75,14.55) 189(-3.25,14.55) 190(-3.75,14.55) 191(-4.25,14.55) 192(-4.75,14.55) 193(-5.25,14.55) 194(-5.75,14.55) 195(-6.25,14.55) 196(-6.75,14.55) 197(-7.25,14.55) 198(-7.75,14.55) 199(-8.25,14.55) 200(-8.75,14.55) 201(-9.25,14.55) 202(-9.75,14.55) 203(-10.25,14.55) 204(-10.75,14.55) 205(-11.25,14.55) 206(-11.75,14.55) 207(-12.25,14.55) 208(-12.75,14.55)
Top Overlay:
  circle w0.25: c-14.55,13.45 r0.125
  circle w0.6: c-12.25,12.25 r0.3
  lines w0.2: -13.25,-13.25 -13.25,13.25 13.25,13.25 13.25,-13.25 -13.25,-13.25
Mechanical 13:
  circle w0.1: c-13.1,13.1 r0.5
  lines w0.1: -14,-14 -14,14 14,14 14,-14 -14,-14
Mechanical 15:
  lines w0.05: -15.7,-15.7 -15.7,15.7 15.7,15.7 15.7,-15.7 -15.7,-15.7
  lines w0.1: -0.5,0 0.5,0 ; 0,-0.5 0,0.5
3D body: height 1.6, standoff 0.05, extent -14,-14 14,14